# EAGLE library part MICROMAG3 (library paparazzi)
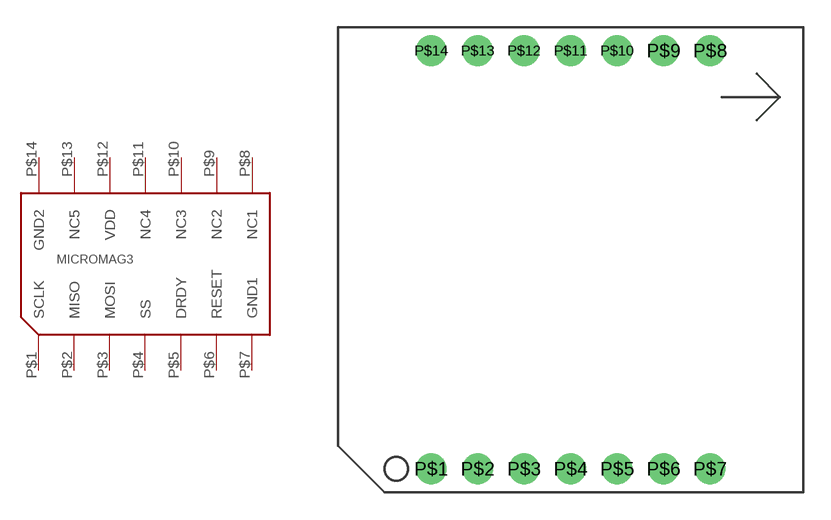
[diagram p33: symbol with the pads of MICROMAG3; footprint MICROMAG3]

Designator prefix -

## MICROMAG3  [MICROMAG3]
P$1  SCLK
P$2  MISO
P$3  MOSI
P$4  SS
P$5  DRDY
P$6  RESET
P$7  GND1
P$8  NC1
P$9  NC2
P$10  NC3
P$11  NC4
P$12  VDD
P$13  NC5
P$14  GND2

## Footprint MICROMAG3 (pad centres in mm)
drill 0.8 pad 1.676: P$1 -7.62,-11.43; P$2 -5.08,-11.43; P$3 -2.54,-11.43; P$4 0,-11.43; P$5 2.54,-11.43; P$6 5.08,-11.43; P$7 7.62,-11.43; P$8 7.62,11.43; P$9 5.08,11.43; P$10 2.54,11.43; P$11 0,11.43; P$12 -2.54,11.43; P$13 -5.08,11.43; P$14 -7.62,11.43